# EAGLE library part LTC1477 (library DSDEagleLibrary)
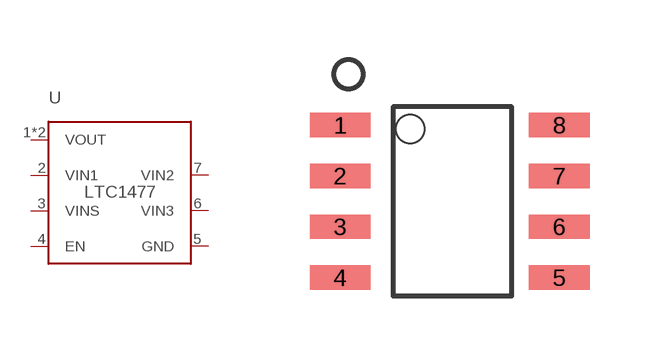
[diagram p68: symbol with the pads of SO8; footprint SO8]

Designator prefix -

## LTC1477  [SO8]
1  VOUT
2  VIN1
3  VINS
4  EN
5  GND
6  VIN3
7  VIN2
8  VOUT

## Footprint SO8 (pad centres in mm)
SO8 narrow body (4mm wide)
smd 1.524 x 0.61: 1 -2.743,1.27; 2 -2.743,0; 3 -2.743,-1.27; 4 -2.743,-2.54; 5 2.743,-2.54; 6 2.743,-1.27; 7 2.743,0; 8 2.743,1.27